# EAGLE library part LP2951 (library eTapper1main27)
Adjustable Micropower Voltage Regulator Source: http://www.national.com/ds/LP/LP2950.pdf
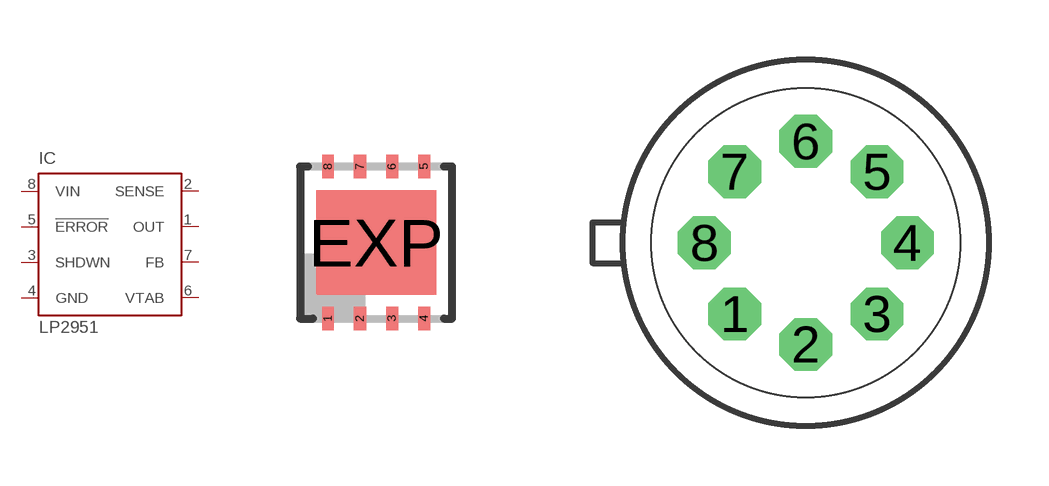
[diagram p3: symbol with the pads of LLP8; footprints LLP8, H08C]

Designator prefix IC

## LP2951D (MPN: LP2951D; OC_FARNELL: 1389844; OC_NEWARK: 48M0679)  [LLP8]
1  OUT  out
2  SENSE  in
3  SHDWN  in
4  GND  pwr
5  !ERROR  out
6  VTAB  in
7  FB  in
8  VIN  in

## LP2951H (OC_FARNELL: unknown; OC_NEWARK: unknown)  [H08C]
Pads as for LLP8

## LP2951M (MF: FAIRCHILD SEMICONDUCTOR; MPN: LP2951CM; OC_FARNELL: 9488561; OC_NEWARK: 78K6014)  [SO08]
Pads as for LLP8

## LP2951N (MF: ON SEMICONDUCTOR; MPN: LP2951CN; OC_FARNELL: 9489320; OC_NEWARK: 20C0799)  [DIL08]
Pads as for LLP8

## LP2951WG (OC_FARNELL: unknown; OC_NEWARK: unknown)  [WG10A]
1  OUT  out
2  SENSE  in
3  SHDWN  in
4  GND  pwr
7  !ERROR  out
8  VTAB  in
9  FB  in
10  VIN  in

## Footprint LLP8 (pad centres in mm)
LLP Package NS Package Number SDC08A Source: http://cache.national.com/ds/LP/LP2950.pdf
smd 0.3 x 0.6: 1 -1.2,-1.9; 2 -0.4,-1.9; 3 0.4,-1.9; 4 1.2,-1.9; 5 1.2,1.9; 6 0.4,1.9; 7 -0.4,1.9; 8 -1.2,1.9
smd 3 x 2.6: EXP 0,0

## Footprint H08C (pad centres in mm)
TO-99 National Semiconductor H08C Motorola MOT 601-04
drill 0.813 octagon: 1 -1.778,-1.778; 2 0,-2.54; 3 1.778,-1.778; 4 2.54,0; 5 1.778,1.778; 6 0,2.54; 7 -1.778,1.778; 8 -2.54,0

## Footprint SO08 (pad centres in mm)
Small Outline Package 8 NS Package M08A
smd 0.6 x 2.2: 1 -1.905,-2.6; 2 -0.635,-2.6; 3 0.635,-2.6; 4 1.905,-2.6; 5 1.905,2.6; 6 0.635,2.6; 7 -0.635,2.6; 8 -1.905,2.6

## Footprint DIL08 (pad centres in mm)
Dual In Line Package
drill 0.813 pad 1.27: 1 -3.81,-3.81; 2 -1.27,-3.81; 3 1.27,-3.81; 4 3.81,-3.81; 5 3.81,3.81; 6 1.27,3.81; 7 -1.27,3.81; 8 -3.81,3.81

## Footprint WG10A (pad centres in mm)
NS Package Number WG10A Source: http://www.national.com/ds/LP/LP2950.pdf
smd 0.69 x 2.29: 1 -2.54,-4.7; 2 -1.27,-4.7; 3 0,-4.7; 4 1.27,-4.7; 5 2.54,-4.7; 6 2.54,4.7; 7 1.27,4.7; 8 0,4.7; 9 -1.27,4.7; 10 -2.54,4.7